# Altium schematic symbol library LMV321IDBVRG4.Schlib: 1 symbol
Pins are listed as number, name and electrical type; pins without a type are passive.

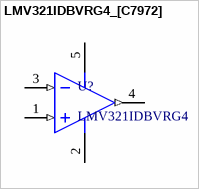
[diagram p0: symbol LMV321IDBVRG4_[C7972]]

## LMV321IDBVRG4_[C7972]
designator U?, comment LMV321IDBVRG4
运放
footprint SOT-23-5
pins: 1 IN+ (in), 2 V- (power), 3 IN- (in), 4 OUT (out), 5 V+ (power)